# Altium integrated library SaraKit_CameraHub.IntLib: 9 symbols
Pins are listed as number, name and electrical type; pins without a type are passive.

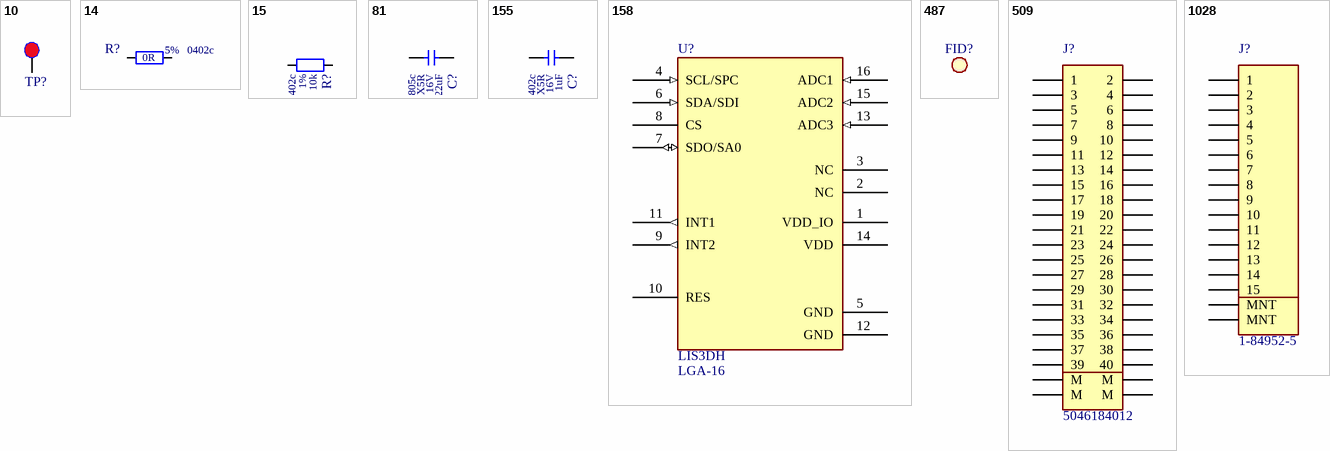
[diagram p0: symbols 10 to 1028]

## 10
designator TP?, comment TESTPAD  (value not drawn)  (no BOM)
00 Index: 10; 01 Name: PCB COMPONENT TESTPAD TESTPAD; 04 Main Group: PCB COMPONENT; 02 MPN: TESTPAD; 05 Sub Group: TESTPAD; 14 Modification Date: 16.11.2020
footprint TP 0.8mm
footprint TP 1.0mm
footprint TP 1.2mm
footprint TP 1.5mm
pins: 1

## 14
designator R?, comment 07 Package: 0402c  09 Parameter 2: 5%  08 Parameter 1: 0R  (hidden comment: RC0402JR-070RL)
SMT 0402c 0R 5% 62.5mW 200ppm/K 50V; 03 Manufacturer: Yageo; 00 Index: 14; 01 Name: RESISTOR THICK FILM RC0402JR-070RL Yageo; 04 Main Group: RESISTOR; 05 Sub Group: THICK FILM; 06 Assembly: SMT; 11 Parameter 4: 200ppm/K; 12 Parameter 5: 50V; 14 Modification Date: 16.11.2020; ComponentLink1Description: DATASHEET; ComponentLink1URL: E:\Praca\Mindsailors\Mindsailors Altium\Database Library\Datasheets\RESISTOR\Yageo RC_L Series.pdf; 10 Parameter 3: 62.5mW; 02 MPN: RC0402JR-070RL
footprint RESC1005X40L
pins: 1, 2

## 15
designator R?, comment 07 Package: 0402c  09 Parameter 2: 1%  08 Parameter 1: 10k  (hidden comment: RC0402FR-0710KL)
SMT 0402c 10k 1% 62.5mW 100ppm/K 50V; 03 Manufacturer: Yageo; 00 Index: 15; 01 Name: RESISTOR THICK FILM RC0402FR-0710KL Yageo; 04 Main Group: RESISTOR; 05 Sub Group: THICK FILM; Library Directory: sym_basics/; Fotprint Directory: fot_ipc/; 06 Assembly: SMT; 11 Parameter 4: 100ppm/K; 12 Parameter 5: 50V; 14 Modification Date: 16.11.2020; ComponentLink1Description: DATASHEET; ComponentLink1URL: E:\Praca\Mindsailors\Mindsailors Altium\Database Library\Datasheets\RESISTOR\Yageo RC_L Series.pdf; 10 Parameter 3: 62.5mW; 02 MPN: RC0402FR-0710KL
footprint RESC1005X40L
pins: 1, 2

## 81
designator C?, comment 11 Parameter 4: X5R  07 Package: 0805c  08 Parameter 1: 22uF  09 Parameter 2: 16V  (hidden comment: CL21A226MOQNNNE)
SMT 0805c 22uF 16V 20% X5R 1.6MHz 85'C; 03 Manufacturer: Samsung; 00 Index: 81; 01 Name: CAPACITOR CERAMIC CL21A226MOQNNNE Samsung; 04 Main Group: CAPACITOR; 05 Sub Group: CERAMIC; 06 Assembly: SMT; 12 Parameter 5: 1.6MHz; 13 Parameter 6: 85'C; 14 Modification Date: 16.11.2020; ComponentLink1Description: DATASHEET; ComponentLink1URL: E:\Praca\Mindsailors\Mindsailors Altium\Database Library\Datasheets\CAPACITOR\Samsung CL21A226MOQNNN.pdf; 02 MPN: CL21A226MOQNNNE; 10 Parameter 3: 20%
footprint CAPC2013X145L
pins: 1, 2

## 155
designator C?, comment 11 Parameter 4: X5R  07 Package: 0402c  08 Parameter 1: 1uF  09 Parameter 2: 16V  (hidden comment: CL05A105KO5NNNC)
SMT 0402c 1uF 16V 10% X5R 11.9MHz 85'C; 03 Manufacturer: Samsung; 00 Index: 155; 01 Name: CAPACITOR THICK FILM CL05A105KO5NNNC Samsung; 04 Main Group: CAPACITOR; 05 Sub Group: THICK FILM; 06 Assembly: SMT; 12 Parameter 5: 11.9MHz; 13 Parameter 6: 85'C; 14 Modification Date: 16.11.2020; ComponentLink1Description: DATASHEET; ComponentLink1URL: E:\Praca\Mindsailors\Mindsailors Altium\Database Library\Datasheets\CAPACITOR\Samsung CL05A105KO5NNN.pdf; 02 MPN: CL05A105KO5NNNC; 10 Parameter 3: 10%
footprint CAPC1005X60L
pins: 1, 2

## 158
designator U?, comment 07 Package: LGA-16  (hidden comment: LIS3DH)
SMT LGA-16 ACCELEROMETER 1.71V - 3.6V +/- 16g; 03 Manufacturer: STMicroelectronics; 00 Index: 158; 01 Name: IC SENSOR LIS3DH STMicroelectronics; 04 Main Group: IC; 05 Sub Group: SENSOR; 12 Parameter 5: +/- 16g; 06 Assembly: SMT; 11 Parameter 4: 1.71V - 3.6V; 14 Modification Date: 18.12.2020; ComponentLink1Description: DATASHEET; ComponentLink1URL: E:\Praca\Mindsailors\Mindsailors Altium\Database Library\Datasheets\IC\ST lis3dh.pdf; 08 Parameter 1: ACCELEROMETER; 02 MPN: LIS3DH
footprint LGA16R50P5X3_300X300X100
pins: 1 VDD_IO (power), 2 NC, 3 NC, 4 SCL/SPC (in), 5 GND (power), 6 SDA/SDI (in), 7 SDO/SA0 (io), 8 CS, 9 INT2 (out), 10 RES, 11 INT1 (out), 12 GND (power), 13 ADC3 (in), 14 VDD (power), 15 ADC2 (in), 16 ADC1 (in)

## 487
designator FID?, comment FIDUCIAL  (value not drawn)  (no BOM)
00 Index: 487; Library Directory: sym_basics/; Fotprint Directory: fot_other/; 01 Name: FIDUCIAL; 14 Modification Date: 23.02.2021; 02 MPN: FIDUCIAL; 07 Package: *
footprint FIDUCIAL 2MM

## 509
designator J?, comment 5046184012
SMT 2x20 0.35mm Straight 50V 0.3A; 03 Manufacturer: Molex; 00 Index: 509; 01 Name: CONNECTOR PCB 5046184012 Molex; 04 Main Group: CONNECTOR; 05 Sub Group: PCB; 06 Assembly: SMT; 13 Parameter 6: 0.3A; 14 Modification Date: 18.03.2021; ComponentLink1Description: DATASHEET; ComponentLink1URL: https://www.molex.com/molex/products/part-detail/pcb_receptacles/5046183012; 09 Parameter 2: 0.35mm; 08 Parameter 1: 2x20; 11 Parameter 4: Straight; 12 Parameter 5: 50V; 07 Package: *; 02 MPN: 5046184012
footprint MOLEX 5046184012
pins: 1, 2, 3, 4, 5, 6, 7, 8, 9, 10, 11, 12, 13, 14, 15, 16, 17, 18, 19, 20, 21, 22, 23, 24, 25, 26, 27, 28, 29, 30, 31, 32, 33, 34, 35, 36, 37, 38, 39, 40, MNT1 M, MNT2 M, MNT3 M, MNT4 M

## 1028
designator J?, comment 1-84952-5
SMT 1x15 1mm Bottom Contact Right Angle 200VAC 1A; 03 Manufacturer: TE Connectivity; 00 Index: 1028; 01 Name: CONNECTOR PCB 1-84952-5 TE Connectivity; 04 Main Group: CONNECTOR; 05 Sub Group: PCB; Library Directory: sym_basics/; Fotprint Directory: fot_other/; 06 Assembly: SMT; 13 Parameter 6: 1A; 14 Modification Date: 22.06.2022; ComponentLink1Description: DATASHEET; ComponentLink1URL: https://www.te.com/usa-en/product-1-84952-5.html; 10 Parameter 3: Bottom Contact; 09 Parameter 2: 1mm; 08 Parameter 1: 1x15; 11 Parameter 4: Right Angle; 12 Parameter 5: 200VAC; 07 Package: *; 02 MPN: 1-84952-5
footprint TE 1-84952-5
pins: 1, 2, 3, 4, 5, 6, 7, 8, 9, 10, 11, 12, 13, 14, 15, MNT1 MNT, MNT2 MNT